# Altium integrated library LTC3531ES6-3.IntLib: 1 symbol
Pins are listed as number, name and electrical type; pins without a type are passive.

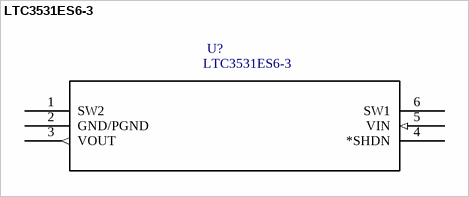
[diagram p0: symbol LTC3531ES6-3]

## LTC3531ES6-3
designator U?
LTC3531 - 200mA Buck-Boost Synchronous DC/DC Converters; MF: Linear Technology; Price: None; Availability: Unavailable; SnapEDA_Link: https://www.snapeda.com/parts/LTC3531ES6-3/Linear%20Technology/view-part/?ref=snap; MP: LTC3531ES6-3; Package: None; Value: *
footprint TSOT-23_S6
pins: 1 SW2, 2 GND/PGND (power), 3 VOUT (out), 4 *SHDN, 5 VIN (in), 6 SW1